# EAGLE library part EF83/86 (library E88CC)
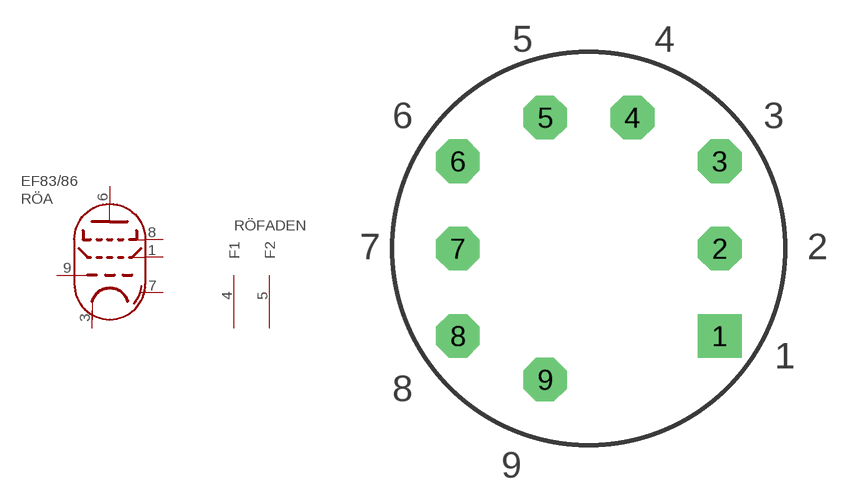
[diagram p8: symbol with the pads of NOVAL_P; footprint NOVAL_P]

Designator prefix RÖ; gates A=PENTODES FADEN=FADEN

## EF83/86  [NOVAL_P]
1  A:G2  in
3  A:K
4  FADEN:F1  pwr
5  FADEN:F2  pwr
6  A:A  out
7  A:S  in
8  A:G3  in
9  A:G1  in

## Footprint NOVAL_P (pad centres in mm)
drill 1 pad 2.54 square: 1 7.62,-5.08
drill 1 pad 2.54 octagon: 2 7.62,0; 3 7.62,5.08; 4 2.54,7.62; 5 -2.54,7.62; 6 -7.62,5.08; 7 -7.62,0; 8 -7.62,-5.08; 9 -2.54,-7.62